# Altium footprint library terminal.PcbLib: 49 footprints (part 2 of 4)
Each footprint in its own frame and in the unit in brackets; x right, y up, seen from the top. Pads: shape width x height; smd on the part's side, far side on the other; paste and mask are expansions set on the pad; w line width, h text height; cw(c..) or ccw(c..) is an arc to the next point about the centre after c.
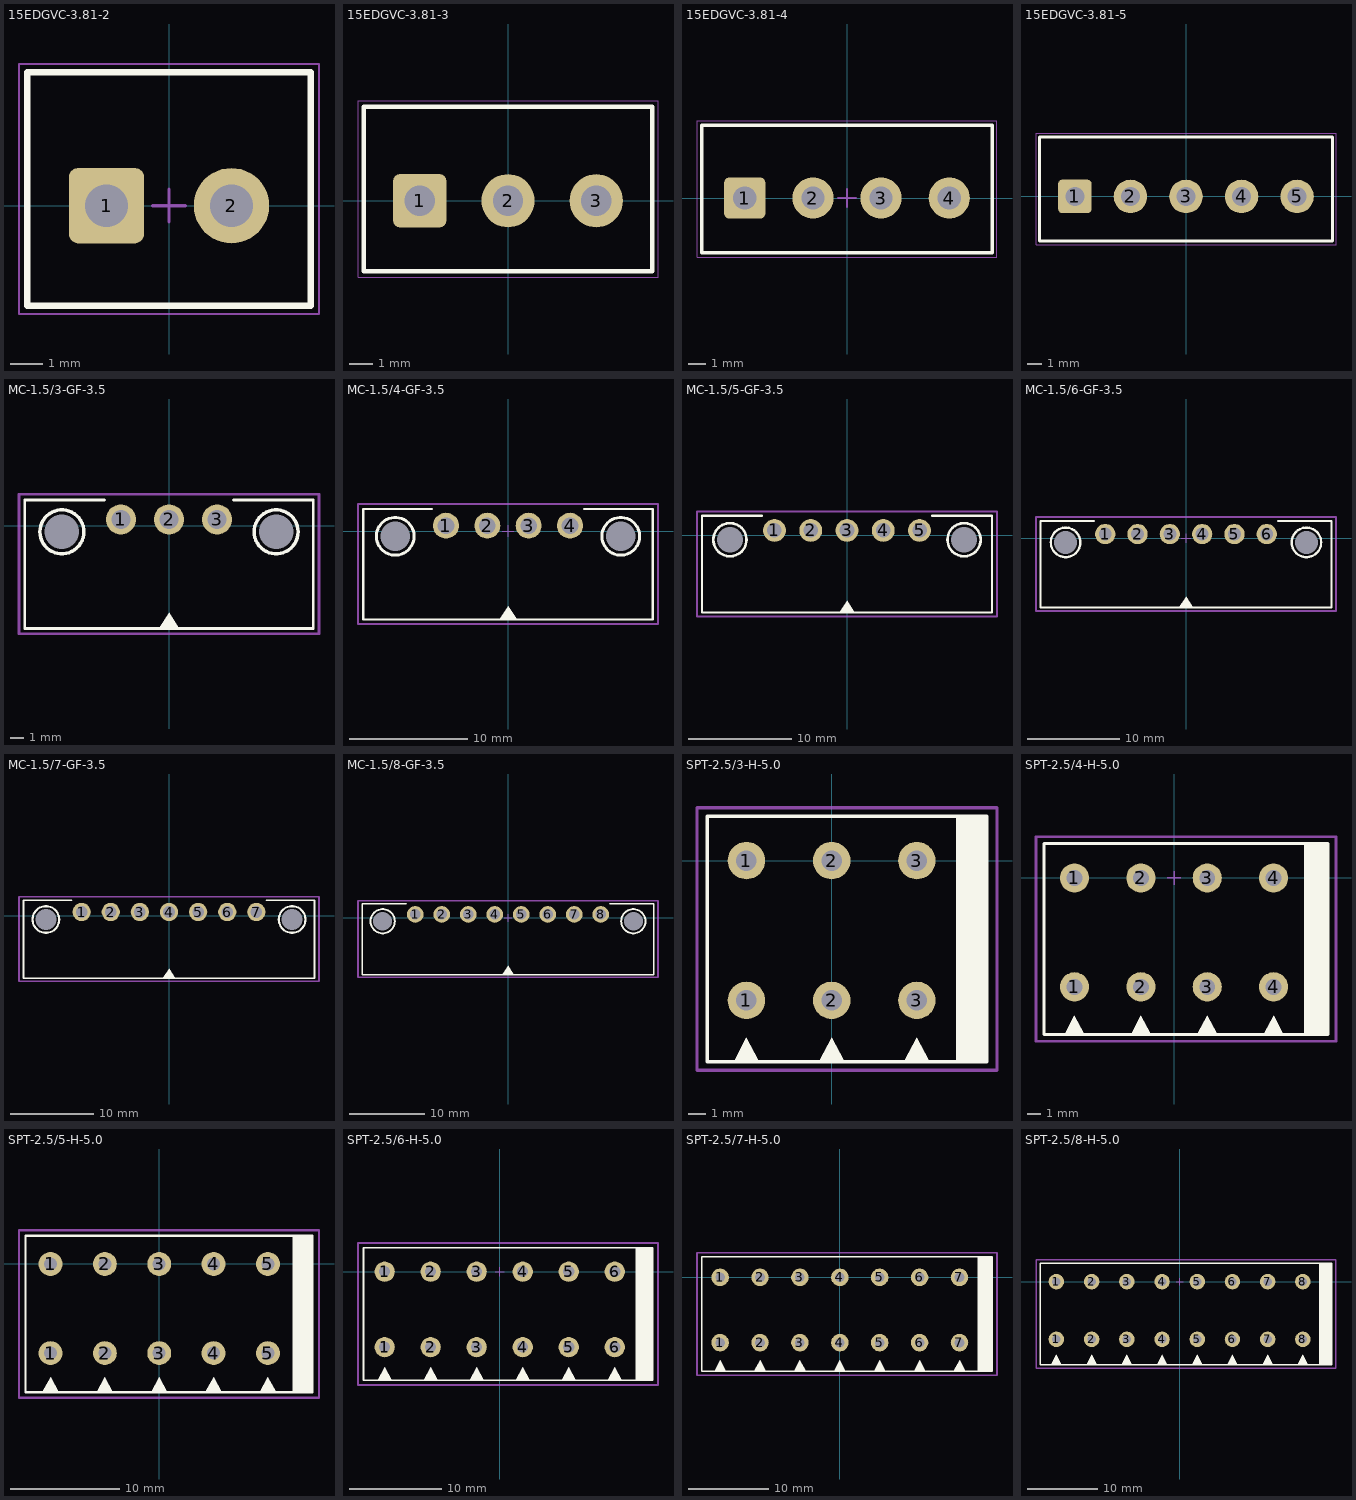
[diagram p1: the footprints below, top view; thin cyan lines are the x and y axes]

## 15EDGVC-3.81-2 [mm]
pads (2):
  rrect25% 2.3x2.3 hole 1.3: 1(-1.905,0)
  round 2.3 hole 1.3: 2(1.905,0)
Top Overlay:
  lines w0.2: -4.318,-3.048 -4.318,4.064 4.318,4.064 4.318,-3.048 -4.318,-3.048
Mechanical 15:
  lines w0.05: -4.572,-3.302 -4.572,4.318 4.572,4.318 4.572,-3.302 -4.572,-3.302
  lines w0.1: -0.5,0 0.5,0 ; 0,-0.5 0,0.5

## 15EDGVC-3.81-3 [mm]
pads (3):
  rrect25% 2.3x2.3 hole 1.3: 1(-3.81,0)
  round 2.3 hole 1.3: 2(0,0) 3(3.81,0)
Top Overlay:
  lines w0.2: -6.223,-3.048 -6.223,4.064 6.223,4.064 6.223,-3.048 -6.223,-3.048
Mechanical 15:
  lines w0.05: -6.477,-3.302 6.477,-3.302 6.477,4.318 -6.477,4.318 -6.477,-3.302
  lines w0.1: -0.5,0 0.5,0 ; 0,-0.5 0,0.5

## 15EDGVC-3.81-4 [mm]
pads (4):
  rrect25% 2.3x2.3 hole 1.3: 1(-5.715,0)
  round 2.3 hole 1.3: 2(-1.905,0) 3(1.905,0) 4(5.715,0)
Top Overlay:
  lines w0.2: -8.128,-3.048 -8.128,4.064 8.128,4.064 8.128,-3.048 -8.128,-3.048
Mechanical 15:
  lines w0.05: -8.382,-3.302 8.382,-3.302 8.382,4.318 -8.382,4.318 -8.382,-3.302
  lines w0.1: -0.5,0 0.5,0 ; 0,-0.5 0,0.5

## 15EDGVC-3.81-5 [mm]
pads (5):
  rrect25% 2.3x2.3 hole 1.3: 1(-7.62,0)
  round 2.3 hole 1.3: 2(-3.81,0) 3(0,0) 4(3.81,0) 5(7.62,0)
Top Overlay:
  lines w0.2: -10.033,-3.048 -10.033,4.064 10.033,4.064 10.033,-3.048 -10.033,-3.048
Mechanical 15:
  lines w0.05: -10.287,-3.302 10.287,-3.302 10.287,4.318 -10.287,4.318 -10.287,-3.302
  lines w0.1: -0.5,0 0.5,0 ; 0,-0.5 0,0.5

## MC-1.5/3-GF-3.5 [mm]
pads (5):
  round 0 hole 2.5: 0(-7.8,-0.45) 0(7.8,-0.45)
  round 2.2 hole 1.4: 1(-3.5,0.45) 2(0,0.45) 3(3.5,0.45)
Top Overlay:
  circle w0.254: c7.8,-0.45 r1.6
  circle w0.254: c-7.8,-0.45 r1.6
  region: 0,-6.35 -0.762,-7.512 0.762,-7.512
  lines w0.2: -4.7,1.866 -10.5,1.866 -10.5,-7.493 10.5,-7.493 10.5,1.866 4.7,1.866
Mechanical 13:
  lines w0.2: -10.922,-7.874 10.922,-7.874 10.922,2.286 -10.922,2.286 -10.922,-7.874
  text ".Designator" at -4.826,-4.572 h3
Mechanical 15:
  lines w0.05: -10.922,-7.874 -10.922,2.286 10.922,2.286 10.922,-7.874 -10.922,-7.874
  lines w0.1: -0.5,0 0.5,0 ; 0,-0.5 0,0.5
3D body "MC 1,5 3-GF-3,5.stp": height 7.35, standoff -3.3, extent -10.4,-7.549 10.4,1.651

## MC-1.5/4-GF-3.5 [mm]
pads (6):
  round 0 hole 2.5: 0(-9.55,-0.45) 0(9.55,-0.45)
  round 2.2 hole 1.4: 1(-5.25,0.45) 2(-1.75,0.45) 3(1.75,0.45) 4(5.25,0.45)
Top Overlay:
  circle w0.254: c9.55,-0.45 r1.6
  circle w0.254: c-9.55,-0.45 r1.6
  region: 0,-6.35 -0.762,-7.512 0.762,-7.512
  lines w0.2: -6.45,1.866 -12.25,1.866 -12.25,-7.493 12.25,-7.493 12.25,1.866 6.45,1.866
Mechanical 13:
  lines w0.2: -12.7,-7.874 12.7,-7.874 12.7,2.286 -12.7,2.286 -12.7,-7.874
  text ".Designator" at -4.826,-4.572 h3
Mechanical 15:
  lines w0.05: -12.7,-7.874 -12.7,2.286 12.7,2.286 12.7,-7.874 -12.7,-7.874
  lines w0.1: -0.5,0 0.5,0 ; 0,-0.5 0,0.5
3D body "MC 1,5 4-GF-3,5.stp": height 7.35, standoff -3.3, extent -12.15,-7.549 12.15,1.651

## MC-1.5/5-GF-3.5 [mm]
pads (7):
  round 0 hole 2.5: 0(-11.3,-0.45) 0(11.3,-0.45)
  round 2.2 hole 1.4: 1(-7,0.45) 2(-3.5,0.45) 3(0,0.45) 4(3.5,0.45) 5(7,0.45)
Top Overlay:
  circle w0.254: c11.3,-0.45 r1.6
  circle w0.254: c-11.3,-0.45 r1.6
  region: 0,-6.35 -0.762,-7.512 0.762,-7.512
  lines w0.2: -8.2,1.866 -14,1.866 -14,-7.493 14,-7.493 14,1.866 8.2,1.866
Mechanical 13:
  lines w0.2: -14.478,-7.874 -14.478,2.286 14.478,2.286 14.478,-7.874 -14.478,-7.874
  text ".Designator" at -4.826,-4.572 h3
Mechanical 15:
  lines w0.05: -14.478,-7.874 14.478,-7.874 14.478,2.286 -14.478,2.286 -14.478,-7.874
  lines w0.1: -0.5,0 0.5,0 ; 0,-0.5 0,0.5
3D body "MC 1,5 5-GF-3,5.stp": height 7.35, standoff -3.3, extent -13.9,-7.549 13.9,1.651

## MC-1.5/6-GF-3.5 [mm]
pads (8):
  round 0 hole 2.5: 0(-13.05,-0.45) 0(13.05,-0.45)
  round 2.2 hole 1.4: 1(-8.75,0.45) 2(-5.25,0.45) 3(-1.75,0.45) 4(1.75,0.45) 5(5.25,0.45) 6(8.75,0.45)
Top Overlay:
  circle w0.254: c-13.05,-0.45 r1.6
  circle w0.254: c13.05,-0.45 r1.6
  region: 0,-6.35 -0.762,-7.512 0.762,-7.512
  lines w0.2: -9.95,1.866 -15.75,1.866 -15.75,-7.493 15.75,-7.493 15.75,1.866 9.95,1.866
Mechanical 13:
  lines w0.2: -16.256,-7.874 -16.256,2.286 16.256,2.286 16.256,-7.874 -16.256,-7.874
  text ".Designator" at -4.826,-4.572 h3
Mechanical 15:
  lines w0.05: -16.256,-7.874 -16.256,2.286 16.256,2.286 16.256,-7.874 -16.256,-7.874
  lines w0.1: -0.5,0 0.5,0 ; 0,-0.5 0,0.5
3D body "MC 1,5 6-GF-3,5.stp": height 7.35, standoff -3.3, extent -15.65,-7.549 15.65,1.651

## MC-1.5/7-GF-3.5 [mm]
pads (9):
  round 0 hole 2.5: 0(-14.8,-0.45) 0(14.8,-0.45)
  round 2.2 hole 1.4: 1(-10.5,0.45) 2(-7,0.45) 3(-3.5,0.45) 4(0,0.45) 5(3.5,0.45) 6(7,0.45) 7(10.5,0.45)
Top Overlay:
  circle w0.254: c-14.8,-0.45 r1.6
  circle w0.254: c14.8,-0.45 r1.6
  region: 0,-6.35 -0.762,-7.512 0.762,-7.512
  lines w0.2: -11.7,1.866 -17.5,1.866 -17.5,-7.493 17.5,-7.493 17.5,1.866 11.7,1.866
Mechanical 13:
  lines w0.2: -18.034,-7.874 -18.034,2.286 18.034,2.286 18.034,-7.874 -18.034,-7.874
  text ".Designator" at -4.826,-4.572 h3
Mechanical 15:
  lines w0.05: -18.034,-7.874 18.034,-7.874 18.034,2.286 -18.034,2.286 -18.034,-7.874
  lines w0.1: -0.5,0 0.5,0 ; 0,-0.5 0,0.5
3D body "MC 1,5 7-GF-3,5.stp": height 7.35, standoff -3.3, extent -17.4,-7.549 17.4,1.651

## MC-1.5/8-GF-3.5 [mm]
pads (10):
  round 0 hole 2.5: 0(-16.55,-0.45) 0(16.55,-0.45)
  round 2.2 hole 1.4: 1(-12.25,0.45) 2(-8.75,0.45) 3(-5.25,0.45) 4(-1.75,0.45) 5(1.75,0.45) 6(5.25,0.45) 7(8.75,0.45) 8(12.25,0.45)
Top Overlay:
  circle w0.254: c16.55,-0.45 r1.6
  circle w0.254: c-16.55,-0.45 r1.6
  region: 0,-6.35 -0.762,-7.512 0.762,-7.512
  lines w0.2: -13.45,1.866 -19.25,1.866 -19.25,-7.493 19.25,-7.493 19.25,1.866 13.45,1.866
Mechanical 13:
  lines w0.2: -19.812,-7.874 19.812,-7.874 19.812,2.286 -19.812,2.286 -19.812,-7.874
  text ".Designator" at -4.826,-4.572 h3
Mechanical 15:
  lines w0.05: -19.812,-7.874 -19.812,2.286 19.812,2.286 19.812,-7.874 -19.812,-7.874
  lines w0.1: -0.5,0 0.5,0 ; 0,-0.5 0,0.5
3D body "MC 1,5 8-GF-3,5.stp": height 7.35, standoff -3.3, extent -19.15,-7.549 19.15,1.651

## SPT-2.5/3-H-5.0 [mm]
pads (6):
  round 2.2 hole 1.2: 1(-5,-8.2) 1(-5,0) 2(0,-8.2) 2(0,0) 3(5,-8.2) 3(5,0)
Top Overlay:
  region: 7.3,2.6 9.1,2.6 9.1,-11.8 7.3,-11.8
  region: 5,-10.4 4.3,-11.7 5.7,-11.7
  region: 0,-10.4 -0.7,-11.7 0.7,-11.7
  region: -5,-10.4 -5.7,-11.7 -4.3,-11.7
  lines w0.2: -7.3,-11.8 9.1,-11.8 9.1,2.6 -7.3,2.6 -7.3,-11.8
Mechanical 13:
  lines w0.2: -7.9,-12.3 -7.9,3.1 9.7,3.1 9.7,-12.3 -7.9,-12.3
  text ".Designator" at -3.5,-5.5 h3
Mechanical 15:
  lines w0.05: -7.9,-12.3 9.7,-12.3 9.7,3.1 -7.9,3.1 -7.9,-12.3
  lines w0.1: -0.5,0 0.5,0 ; 0,-0.5 0,0.5
3D body "SPT 2,5 3-H-5,0.stp": height 13.65, standoff -2.35, extent -7.3,-11.8 9.1,2.6

## SPT-2.5/4-H-5.0 [mm]
pads (8):
  round 2.2 hole 1.2: 1(-7.5,-8.2) 1(-7.5,0) 2(-2.5,-8.2) 2(-2.5,0) 3(2.5,-8.2) 3(2.5,0) 4(7.5,-8.2) 4(7.5,0)
Top Overlay:
  region: 9.8,2.6 11.6,2.6 11.6,-11.8 9.8,-11.8
  region: -7.5,-10.4 -8.2,-11.7 -6.8,-11.7
  region: -2.5,-10.4 -3.2,-11.7 -1.8,-11.7
  region: 2.5,-10.4 1.8,-11.7 3.2,-11.7
  region: 7.5,-10.4 6.8,-11.7 8.2,-11.7
  lines w0.2: -9.8,-11.8 -9.8,2.6 11.6,2.6 11.6,-11.8 -9.8,-11.8
Mechanical 13:
  lines w0.2: -10.4,-12.3 12.2,-12.3 12.2,3.1 -10.4,3.1 -10.4,-12.3
  text ".Designator" at -3.5,-5.5 h3
Mechanical 15:
  lines w0.05: -10.4,-12.3 -10.4,3.1 12.2,3.1 12.2,-12.3 -10.4,-12.3
  lines w0.1: -0.5,0 0.5,0 ; 0,-0.5 0,0.5
3D body "SPT 2,5 4-H-5,0.stp": height 13.65, standoff -2.35, extent -9.8,-11.8 11.6,2.6

## SPT-2.5/5-H-5.0 [mm]
pads (10):
  round 2.2 hole 1.2: 1(-10,-8.2) 1(-10,0) 2(-5,-8.2) 2(-5,0) 3(0,-8.2) 3(0,0) 4(5,-8.2) 4(5,0) 5(10,-8.2) 5(10,0)
Top Overlay:
  region: 12.3,2.6 14.1,2.6 14.1,-11.8 12.3,-11.8
  region: 5,-10.4 4.3,-11.7 5.7,-11.7
  region: 0,-10.4 -0.7,-11.7 0.7,-11.7
  region: -5,-10.4 -5.7,-11.7 -4.3,-11.7
  region: -10,-10.4 -10.7,-11.7 -9.3,-11.7
  region: 10,-10.4 9.3,-11.7 10.7,-11.7
  lines w0.2: -12.3,-11.8 14.1,-11.8 14.1,2.6 -12.3,2.6 -12.3,-11.8
Mechanical 13:
  lines w0.2: -12.9,-12.3 -12.9,3.1 14.7,3.1 14.7,-12.3 -12.9,-12.3
  text ".Designator" at -3.5,-5.5 h3
Mechanical 15:
  lines w0.05: -12.9,-12.3 14.7,-12.3 14.7,3.1 -12.9,3.1 -12.9,-12.3
  lines w0.1: -0.5,0 0.5,0 ; 0,-0.5 0,0.5
3D body "SPT 2,5 5-H-5,0.stp": height 13.65, standoff -2.35, extent -12.3,-11.8 14.1,2.6

## SPT-2.5/6-H-5.0 [mm]
pads (12):
  round 2.2 hole 1.2: 1(-12.5,-8.2) 1(-12.5,0) 2(-7.5,-8.2) 2(-7.5,0) 3(-2.5,-8.2) 3(-2.5,0) 4(2.5,-8.2) 4(2.5,0) 5(7.5,-8.2) 5(7.5,0) 6(12.5,-8.2) 6(12.5,0)
Top Overlay:
  region: 14.8,2.6 16.6,2.6 16.6,-11.8 14.8,-11.8
  region: 7.5,-10.4 6.8,-11.7 8.2,-11.7
  region: 12.5,-10.4 11.8,-11.7 13.2,-11.7
  region: -12.5,-10.4 -13.2,-11.7 -11.8,-11.7
  region: -7.5,-10.4 -8.2,-11.7 -6.8,-11.7
  region: -2.5,-10.4 -3.2,-11.7 -1.8,-11.7
  region: 2.5,-10.4 1.8,-11.7 3.2,-11.7
  lines w0.2: -14.8,-11.8 -14.8,2.6 16.6,2.6 16.6,-11.8 -14.8,-11.8
Mechanical 13:
  lines w0.2: -15.4,-12.3 17.2,-12.3 17.2,3.1 -15.4,3.1 -15.4,-12.3
  text ".Designator" at -3.5,-5.5 h3
Mechanical 15:
  lines w0.05: -15.4,-12.3 -15.4,3.1 17.2,3.1 17.2,-12.3 -15.4,-12.3
  lines w0.1: -0.5,0 0.5,0 ; 0,-0.5 0,0.5
3D body "SPT 2,5 6-H-5,0.stp": height 13.65, standoff -2.35, extent -14.8,-11.8 16.6,2.6

## SPT-2.5/7-H-5.0 [mm]
pads (14):
  round 2.2 hole 1.2: 1(-15,-8.2) 1(-15,0) 2(-10,-8.2) 2(-10,0) 3(-5,-8.2) 3(-5,0) 4(0,-8.2) 4(0,0) 5(5,-8.2) 5(5,0) 6(10,-8.2) 6(10,0) 7(15,-8.2) 7(15,0)
Top Overlay:
  region: 17.3,2.6 19.1,2.6 19.1,-11.8 17.3,-11.8
  region: 0,-10.4 -0.7,-11.7 0.7,-11.7
  region: -5,-10.4 -5.7,-11.7 -4.3,-11.7
  region: -10,-10.4 -10.7,-11.7 -9.3,-11.7
  region: -15,-10.4 -15.7,-11.7 -14.3,-11.7
  region: 15,-10.4 14.3,-11.7 15.7,-11.7
  region: 10,-10.4 9.3,-11.7 10.7,-11.7
  region: 5,-10.4 4.3,-11.7 5.7,-11.7
  lines w0.2: -17.3,-11.8 19.1,-11.8 19.1,2.6 -17.3,2.6 -17.3,-11.8
Mechanical 13:
  lines w0.2: -17.9,-12.3 -17.9,3.1 19.7,3.1 19.7,-12.3 -17.9,-12.3
  text ".Designator" at -3.5,-5.5 h3
Mechanical 15:
  lines w0.05: -17.9,-12.3 19.7,-12.3 19.7,3.1 -17.9,3.1 -17.9,-12.3
  lines w0.1: -0.5,0 0.5,0 ; 0,-0.5 0,0.5
3D body "SPT 2,5 7-H-5,0.stp": height 13.65, standoff -2.35, extent -17.3,-11.8 19.1,2.6

## SPT-2.5/8-H-5.0 [mm]
pads (16):
  round 2.2 hole 1.2: 1(-17.5,-8.2) 1(-17.5,0) 2(-12.5,-8.2) 2(-12.5,0) 3(-7.5,-8.2) 3(-7.5,0) 4(-2.5,-8.2) 4(-2.5,0) 5(2.5,-8.2) 5(2.5,0) 6(7.5,-8.2) 6(7.5,0) 7(12.5,-8.2) 7(12.5,0) 8(17.5,-8.2) 8(17.5,0)
Top Overlay:
  region: -2.5,-10.4 -3.2,-11.7 -1.8,-11.7
  region: -7.5,-10.4 -8.2,-11.7 -6.8,-11.7
  region: -12.5,-10.4 -13.2,-11.7 -11.8,-11.7
  region: -17.5,-10.4 -18.2,-11.7 -16.8,-11.7
  region: 17.5,-10.4 16.8,-11.7 18.2,-11.7
  region: 12.5,-10.4 11.8,-11.7 13.2,-11.7
  region: 7.5,-10.4 6.8,-11.7 8.2,-11.7
  region: 2.5,-10.4 1.8,-11.7 3.2,-11.7
  region: 19.8,2.6 21.6,2.6 21.6,-11.8 19.8,-11.8
  lines w0.2: -19.8,-11.8 21.6,-11.8 21.6,2.6 -19.8,2.6 -19.8,-11.8
Mechanical 13:
  lines w0.2: -20.4,-12.3 -20.4,3.1 22.2,3.1 22.2,-12.3 -20.4,-12.3
  text ".Designator" at -3.5,-5.6 h3
Mechanical 15:
  lines w0.05: -20.4,-12.3 22.2,-12.3 22.2,3.1 -20.4,3.1 -20.4,-12.3
  lines w0.1: -0.5,0 0.5,0 ; 0,-0.5 0,0.5
3D body "SPT 2,5 8-H-5,0.stp": height 13.65, standoff -2.35, extent -19.8,-11.8 21.6,2.6